# Altium schematic symbol library ZXTN4004KTC.SchLib: 1 symbol
Pins are listed as number, name and electrical type; pins without a type are passive.

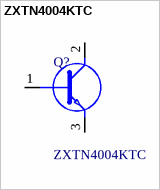
[diagram p0: symbol ZXTN4004KTC]

## ZXTN4004KTC
designator Q?
Bipolar (BJT) Transistor NPN 150 V 1 A 3.8 W Surface Mount TO-252-3; Manufacturer_Name: Diodes Incorporated; Geometry.Height: 2.52mm; Mouser Part Number: 621-ZXTN4004KTC; Mouser Price/Stock: https://www.mouser.co.uk/ProductDetail/Diodes-Incorporated/ZXTN4004KTC?qs=aXnpsjvrXd1NjskJTVsVYA%3D%3D; Manufacturer_Part_Number: ZXTN4004KTC; Datasheet Link: https://www.diodes.com//assets/Datasheets/ZXTN4004K.pdf
footprint ZXTN4004KTC
pins: 1 B, 2 C, 3 E